# EAGLE library part NANO-8 (library basicmicro)
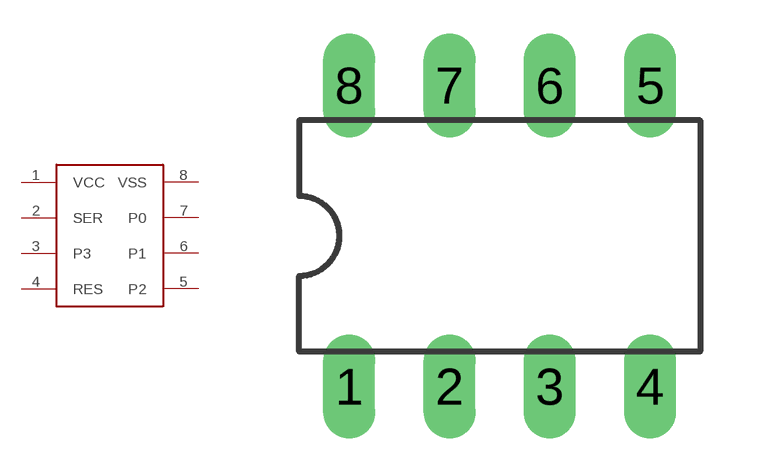
[diagram p7: symbol with the pads of DIL08; footprint DIL08]

Designator prefix -

## NANO-8  [DIL08]
1  VCC  pwr
2  SER  pwr
3  P3
4  RES  pwr
5  P2
6  P1
7  P0
8  VSS

## Footprint DIL08 (pad centres in mm)
Dual In Line Package
drill 0.813 long: 1 -3.81,-3.81; 2 -1.27,-3.81; 3 1.27,-3.81; 4 3.81,-3.81; 5 3.81,3.81; 6 1.27,3.81; 7 -1.27,3.81; 8 -3.81,3.81